# EAGLE library part MPL115A1 (library Smart fan)
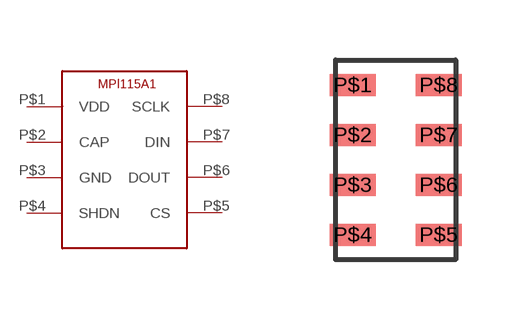
[diagram p0: symbol with the pads of MPL115A1; footprint MPL115A1]

Designator prefix -

## MPL115A1  [MPL115A1]
P$1  VDD
P$2  CAP
P$3  GND
P$4  SHDN
P$5  CS
P$6  DOUT
P$7  DIN
P$8  SCLK

## Footprint MPL115A1 (pad centres in mm)
https://www.nxp.com/docs/en/data-sheet/MPL115A1.pdf
smd 1.15 x 0.55: P$1 -1.075,1.875; P$2 -1.075,0.625; P$3 -1.075,-0.625; P$4 -1.075,-1.875; P$5 1.075,-1.875; P$6 1.075,-0.625; P$7 1.075,0.625; P$8 1.075,1.875